# EAGLE library part SIM868 (library df4iah_gsm)
SIMCom SIM868 GSM/GPRS - GNSS Module Quad-band 850/900/1800/1900MHz GPRS multi-slot class 12/10 GPRS mobile station class B Support GPS/GLONASS/BD Dimensions: 17.6*15.7*2.3mm Weight: 1.5g Control via AT commands (3GPP TS 27.007, 27.005 and SIMComenhanced AT Commands) Supply voltage range 3.4 ~ 4.4V Low power consumption Operation temperature:-40℃~85℃ GNSS 33 tracking /99 acquisition channelSensitivity -Tracking: -167 dBm Reacquisition: -161 dBm Cold starts : -149 dBm
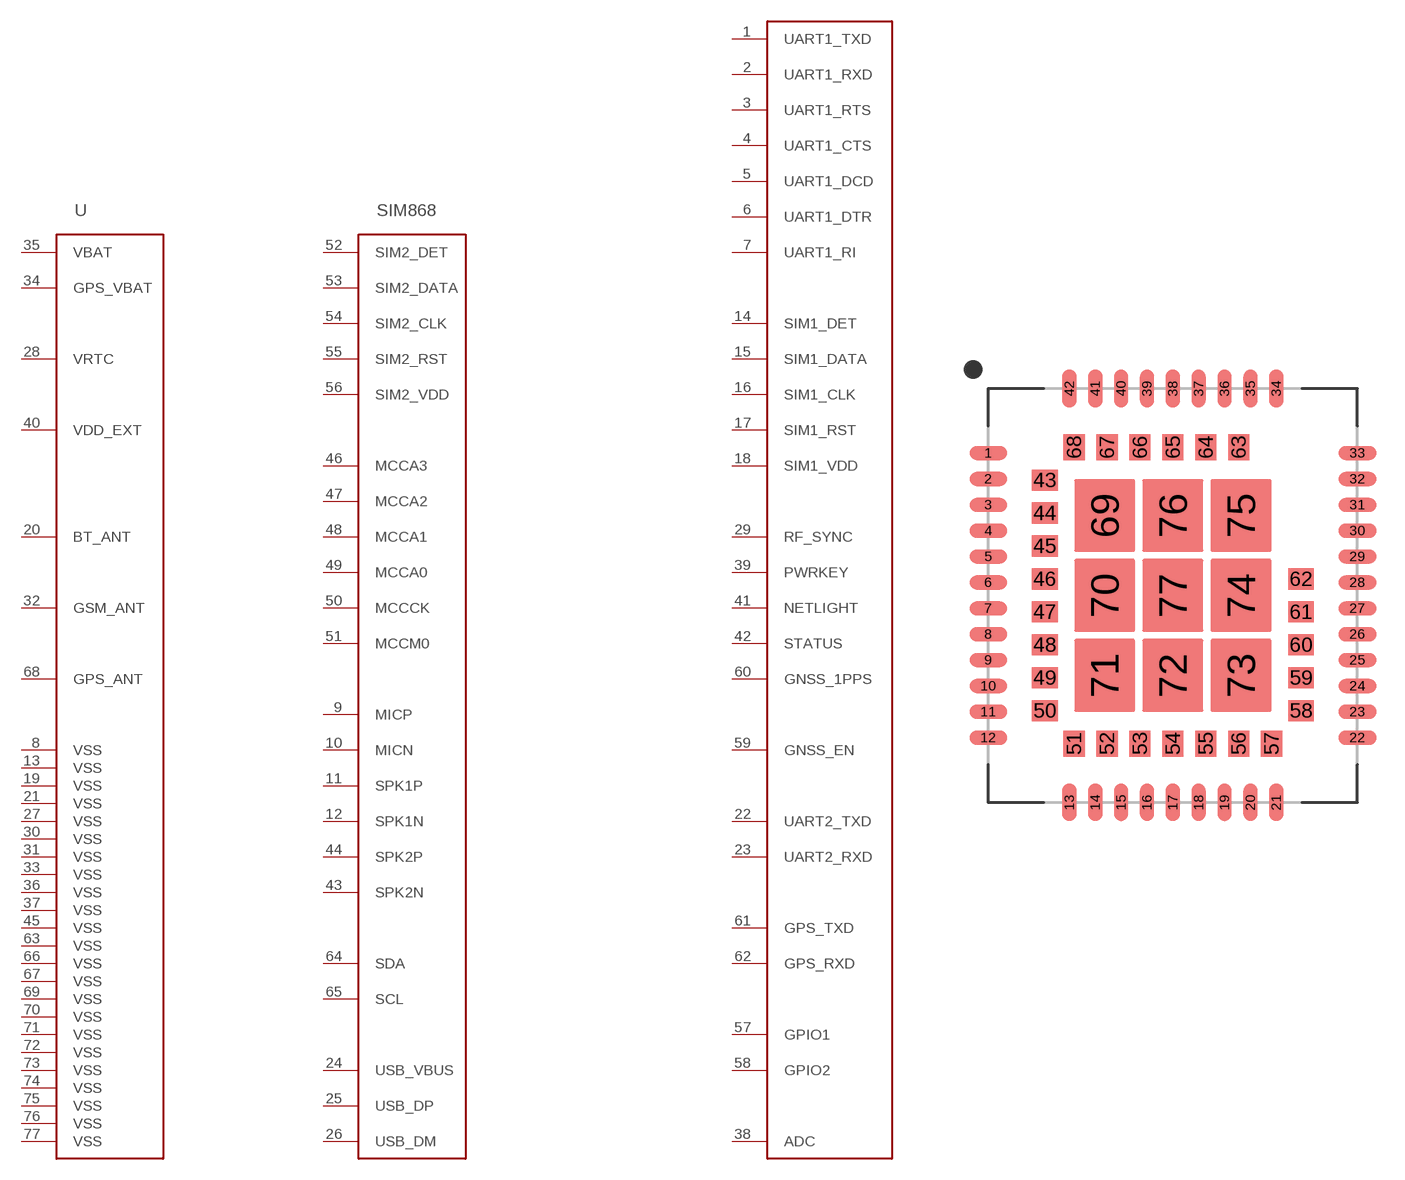
[diagram p1: symbol with the pads of SIM868; footprint SIM868]

Designator prefix U

## SIM868  [SIM868]
1  UART1_TXD  pas
2  UART1_RXD  pas
3  UART1_RTS  pas
4  UART1_CTS  pas
5  UART1_DCD  pas
6  UART1_DTR  pas
7  UART1_RI  pas
8  VSS  pas
9  MICP  pas
10  MICN  pas
11  SPK1P  pas
12  SPK1N  pas
13  VSS  pas
14  SIM1_DET  pas
15  SIM1_DATA  pas
16  SIM1_CLK  pas
17  SIM1_RST  pas
18  SIM1_VDD  pas
19  VSS  pas
20  BT_ANT  pas
21  VSS  pas
22  UART2_TXD  pas
23  UART2_RXD  pas
24  USB_VBUS  pas
25  USB_DP  pas
26  USB_DM  pas
27  VSS  pas
28  VRTC  pas
29  RF_SYNC  pas
30  VSS  pas
31  VSS  pas
32  GSM_ANT  pas
33  VSS  pas
34  GPS_VBAT  pas
35  VBAT  pas
36  VSS  pas
37  VSS  pas
38  ADC  pas
39  PWRKEY  pas
40  VDD_EXT  pas
41  NETLIGHT  pas
42  STATUS  pas
43  SPK2N  pas
44  SPK2P  pas
45  VSS  pas
46  MCCA3  pas
47  MCCA2  pas
48  MCCA1  pas
49  MCCA0  pas
50  MCCCK  pas
51  MCCM0  pas
52  SIM2_DET  pas
53  SIM2_DATA  pas
54  SIM2_CLK  pas
55  SIM2_RST  pas
56  SIM2_VDD  pas
57  GPIO1  pas
58  GPIO2  pas
59  GNSS_EN  pas
60  GNSS_1PPS  pas
61  GPS_TXD  pas
62  GPS_RXD  pas
63  VSS  pas
64  SDA  pas
65  SCL  pas
66  VSS  pas
67  VSS  pas
68  GPS_ANT  pas
69  VSS  pas
70  VSS  pas
71  VSS  pas
72  VSS  pas
73  VSS  pas
74  VSS  pas
75  VSS  pas
76  VSS  pas
77  VSS  pas

## Footprint SIM868 (pad centres in mm)
SIMCom SIM868 GSM/GPRS - GNSS Module Quad-band 850/900/1800/1900MHz GPRS multi-slot class 12/10 GPRS mobile station class B Support GPS/GLONASS/BD Dimensions: 17.6*15.7*2.3mm Weight: 1.5g Control via AT commands (3GPP TS 27.007, 27.005 and SIMComenhanced AT Commands) Supply voltage range 3.4 ~ 4.4V Low power consumption Operation temperature:-40℃~85℃ GNSS 33 tracking /99 acquisition channelSensitivity -Tracking: -167 dBm Reacquisition: -161 dBm Cold starts : -149 dBm
smd 1.6 x 0.6: 1 -7.85,6.05; 2 -7.85,4.95; 3 -7.85,3.85; 4 -7.85,2.75; 5 -7.85,1.65; 6 -7.85,0.55; 7 -7.85,-0.55; 8 -7.85,-1.65; 9 -7.85,-2.75; 10 -7.85,-3.85; 11 -7.85,-4.95; 12 -7.85,-6.05; 22 7.85,-6.05; 23 7.85,-4.95; 24 7.85,-3.85; 25 7.85,-2.75; 26 7.85,-1.65; 27 7.85,-0.55; 28 7.85,0.55; 29 7.85,1.65; 30 7.85,2.75; 31 7.85,3.85; 32 7.85,4.95; 33 7.85,6.05
smd 0.6 x 1.6: 13 -4.4,-8.8; 14 -3.3,-8.8; 15 -2.2,-8.8; 16 -1.1,-8.8; 17 0,-8.8; 18 1.1,-8.8; 19 2.2,-8.8; 20 3.3,-8.8; 21 4.4,-8.8; 34 4.4,8.8; 35 3.3,8.8; 36 2.2,8.8; 37 1.1,8.8; 38 0,8.8; 39 -1.1,8.8; 40 -2.2,8.8; 41 -3.3,8.8; 42 -4.4,8.8
smd 1.1 x 0.9: 43 -5.45,4.9; 44 -5.45,3.5; 45 -5.45,2.1; 46 -5.45,0.7; 47 -5.45,-0.7; 48 -5.45,-2.1; 49 -5.45,-3.5; 50 -5.45,-4.9; 58 5.45,-4.9; 59 5.45,-3.5; 60 5.45,-2.1; 61 5.45,-0.7; 62 5.45,0.7
smd 0.9 x 1.1: 51 -4.2,-6.3; 52 -2.8,-6.3; 53 -1.4,-6.3; 54 0,-6.3; 55 1.4,-6.3; 56 2.8,-6.3; 57 4.2,-6.3; 63 2.8,6.3; 64 1.4,6.3; 65 0,6.3; 66 -1.4,6.3; 67 -2.8,6.3; 68 -4.2,6.3
smd 2.6 x 3.1: 69 -2.9,3.4; 70 -2.9,0; 71 -2.9,-3.4; 72 0,-3.4; 73 2.9,-3.4; 74 2.9,0; 75 2.9,3.4; 76 0,3.4; 77 0,0